# Altium schematic symbol library SchematicSymbols.SchLib: 2 symbols
Pins are listed as number, name and electrical type; pins without a type are passive.

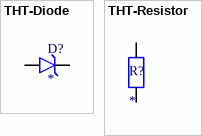
[diagram p0: symbols THT-Diode to THT-Resistor]

## THT-Diode
designator D?
Throughhole Diode
pins: 1, 2

## THT-Resistor
designator R?
Throughhole Resistor
footprint THT-Resistor
pins: 1, 2